# Altium footprint library PcbLib1.PcbLib: 12 footprints
Each footprint in its own frame and in the unit in brackets; x right, y up, seen from the top. Pads: shape width x height; smd on the part's side, far side on the other; paste and mask are expansions set on the pad; w line width, h text height; cw(c..) or ccw(c..) is an arc to the next point about the centre after c.
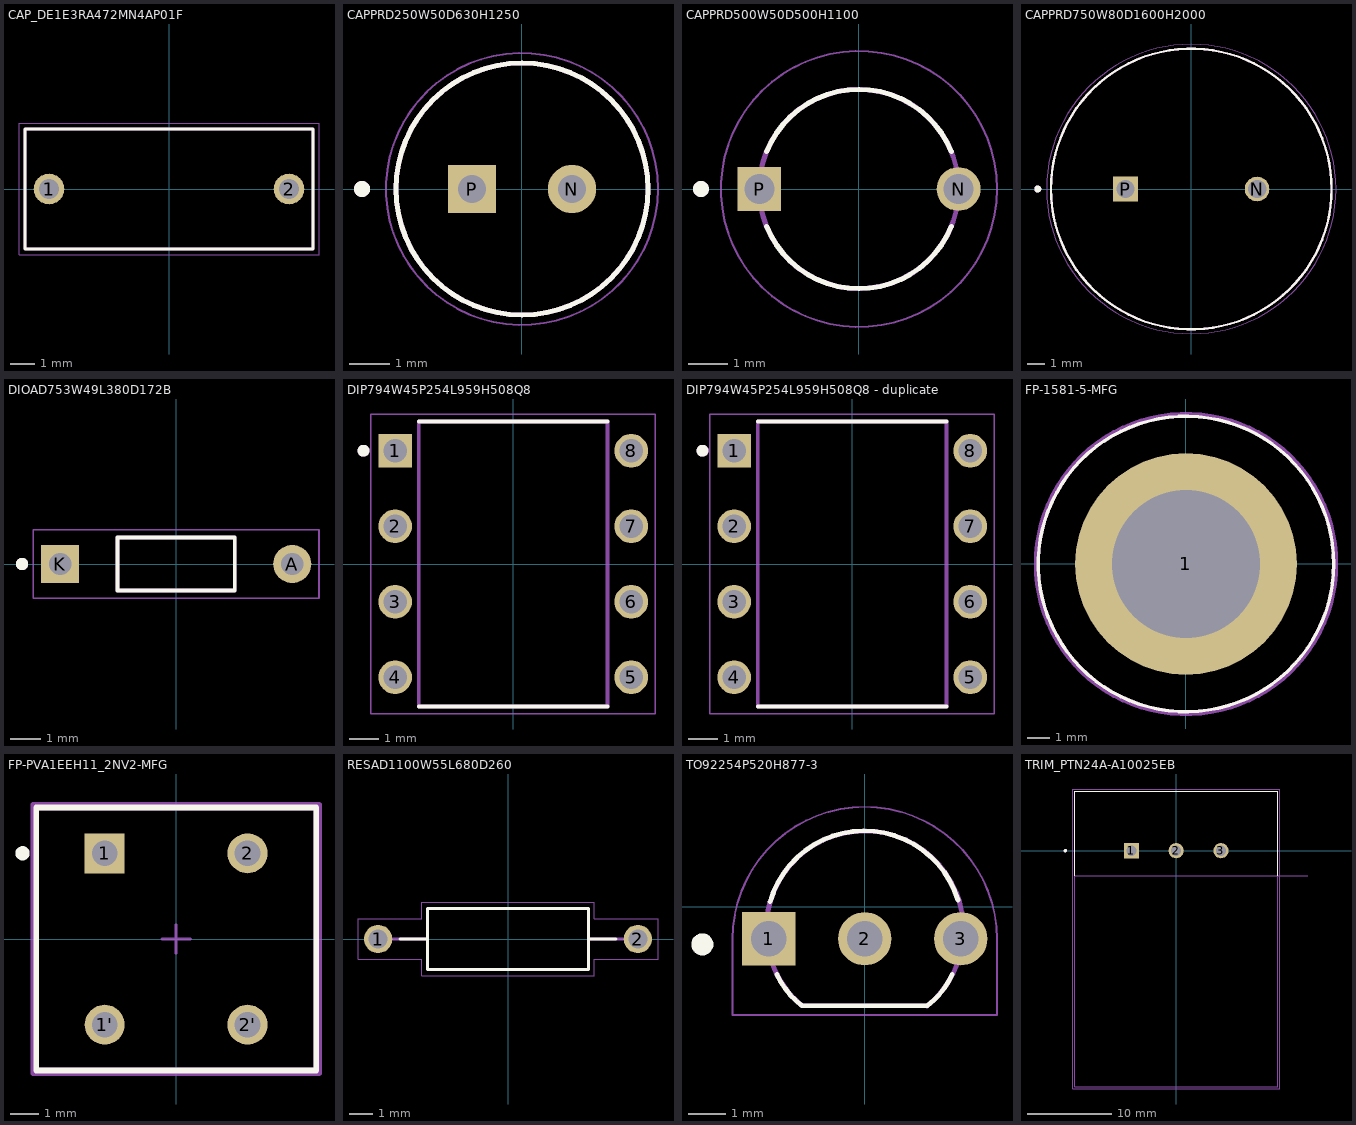
[diagram p0: the footprints below, top view; thin cyan lines are the x and y axes]

## CAP_DE1E3RA472MN4AP01F [mm]
pads (2):
  round 1.28 hole 0.85: 1(-5,0) 2(5,0)
Top Overlay:
  lines w0.127: -6,-2.5 6,-2.5 6,2.5 -6,2.5 -6,-2.5
Mechanical 13:
  lines w0.127: -6,-2.5 6,-2.5 6,2.5 -6,2.5 -6,-2.5
Mechanical 15:
  lines w0.05: -6.25,-2.75 6.25,-2.75 6.25,2.75 -6.25,2.75 -6.25,-2.75

## CAPPRD250W50D630H1250 [mm]
pads (2):
  round 1.208 hole 0.7: N(1.25,0)
  rect 1.208x1.208 / inner round 1.208 / far side rect 1.208x1.208 hole 0.7: P(-1.25,0)
Top Overlay:
  circle w0.2: c-4,0 r0.1
  circle w0.127: c0,0 r3.15
Mechanical 13:
  circle w0.2: c-4,0 r0.1
  circle w0.127: c0,0 r3.15
Mechanical 15:
  circle w0.05: c0,0 r3.4
3D body "step_temp.STEP": height 12.5, standoff -19, extent -3.15,-3.148 3.15,3.148

## CAPPRD500W50D500H1100 [mm]
pads (2):
  round 1.1 hole 0.75: N(2.5,0)
  rect 1.1x1.1 / inner round 1.1 / far side rect 1.1x1.1 hole 0.75: P(-2.5,0)
Top Overlay:
  circle w0.2: c-3.963,0 r0.1
  lines w0.127: -2.318,-0.937 ccw(c0,0) 2.318,-0.937 ; -2.318,0.937 cw(c0,0) 2.318,0.937
Mechanical 13:
  circle w0.127: c0,0 r2.5
  circle w0.2: c-3.963,0 r0.1
Mechanical 15:
  circle w0.05: c0,0 r3.463
3D body "step_temp.STEP": height 12.5, standoff -15.5, extent -2.75,-2.498 2.75,2.498

## CAPPRD750W80D1600H2000 [mm]
pads (2):
  round 1.4 hole 1.05: N(3.75,0)
  rect 1.4x1.4 hole 1.05: P(-3.75,0)
Top Overlay:
  circle w0.127: c0,0 r8
  circle w0.2: c-8.75,0 r0.1
Mechanical 13:
  circle w0.127: c0,0 r8
  circle w0.2: c-8.75,0 r0.1
Mechanical 15:
  circle w0.05: c0,0 r8.25
3D body "step_temp.STEP": height 20, standoff -17, extent -8,-7.999 8,7.999

## DIOAD753W49L380D172B [mm]
height 1.91
pads (2):
  round 1.238 hole 0.73: A(3.768,0)
  rect 1.238x1.238 / inner round 1.238 / far side rect 1.238x1.238 hole 0.73: K(-3.768,0)
Top Overlay:
  circle w0.2: c-5,0 r0.1
  lines w0.127: -1.903,-0.86 -1.903,0.86 1.903,0.86 1.903,-0.86 -1.903,-0.86
Mechanical 13:
  circle w0.2: c-5,0 r0.1
  lines w0.127: -1.903,-0.86 -1.903,0.86 1.903,0.86 1.903,-0.86 -1.903,-0.86
Mechanical 15:
  lines w0.05: -4.637,-1.11 -4.637,1.11 4.637,1.11 4.637,-1.11 -4.637,-1.11
3D body "step_temp.STEP": height 1.91, standoff -22.92, extent -4.003,-0.955 4.003,0.955

## DIP794W45P254L959H508Q8 [mm]
pads (8):
  rect 1.13x1.13 / inner round 1.13 / far side rect 1.13x1.13 hole 0.78: 1(-3.97,3.81)
  round 1.13 hole 0.78: 2(-3.97,1.27) 3(-3.97,-1.27) 4(-3.97,-3.81) 5(3.97,-3.81) 6(3.97,-1.27) 7(3.97,1.27) 8(3.97,3.81)
Top Overlay:
  circle w0.2: c-5.035,3.81 r0.1
  lines w0.127: -3.175,-4.795 3.175,-4.795 ; -3.175,4.795 3.175,4.795
Mechanical 13:
  circle w0.2: c-5.035,3.81 r0.1
  lines w0.127: -3.175,-4.795 3.175,-4.795 3.175,4.795 -3.175,4.795 -3.175,-4.795
Mechanical 15:
  lines w0.05: -4.785,-5.045 4.785,-5.045 4.785,5.045 -4.785,5.045 -4.785,-5.045
3D body "step_temp.STEP": height 5.08, standoff -3, extent -4.153,-4.795 4.153,4.795

## DIP794W45P254L959H508Q8 - duplicate [mm]
height 5.08
pads (8):
  rect 1.13x1.13 / inner round 1.13 / far side rect 1.13x1.13 hole 0.78: 1(-3.97,3.81)
  round 1.13 hole 0.78: 2(-3.97,1.27) 3(-3.97,-1.27) 4(-3.97,-3.81) 5(3.97,-3.81) 6(3.97,-1.27) 7(3.97,1.27) 8(3.97,3.81)
Top Overlay:
  circle w0.2: c-5.035,3.81 r0.1
  lines w0.127: -3.175,-4.795 3.175,-4.795 ; -3.175,4.795 3.175,4.795
Mechanical 13:
  circle w0.2: c-5.035,3.81 r0.1
  lines w0.127: -3.175,-4.795 -3.175,4.795 3.175,4.795 3.175,-4.795 -3.175,-4.795
Mechanical 15:
  lines w0.05: -4.785,-5.045 -4.785,5.045 4.785,5.045 4.785,-5.045 -4.785,-5.045
3D body "step_temp.STEP": height 5.08, standoff -3, extent -4.153,-4.795 4.153,4.795

## FP-1581-5-MFG [mm]
pads (1):
  round 9.9 hole 6.6 paste-2539.97 mask+0: 1(0,0)
Top Overlay:
  circle w0.15: c0,0 r6.604
Top 3D Body:
  circle w0.15: c0,0 r6.604
Top Courtyard:
  lines w0.2: -6.704,0 ccw(c0,0) 6.704,0 ccw(c0,0) -6.704,0
Top Assembly:
  text ".Designator" at 0,0.188 h1
Top Component Center:
  lines w0.1: -0.5,0 0.5,0 ; 0,-0.5 0,0.5
3D body "Conn_Pomona_Electronics_1581-5_eec.STEP": height 0.25, standoff 0, extent -6.704,-6.704 6.704,6.704

## FP-PVA1EEH11_2NV2-MFG [mm]
pads (4):
  rect 1.4x1.4 hole 0.9 paste-2539.97 mask+0: 1(-2.5,3)
  round 1.4 hole 0.9 paste-2539.97 mask+0: 1'(-2.5,-3) 2(2.5,3) 2'(2.5,-3)
Top Overlay:
  circle w0.25: c-5.375,3 r0.125
  lines w0.2: -4.9,-4.6 -4.9,4.6 4.9,4.6 4.9,-4.6 -4.9,-4.6
Top 3D Body:
  lines w0.2: -4.9,-4.6 -4.9,4.6 4.9,4.6 4.9,-4.6 -4.9,-4.6
Top Courtyard:
  lines w0.2: -5,-4.7 -5,4.7 5,4.7 5,-4.7 -5,-4.7
Top Assembly:
  lines w0.2: -5,-4.7 -5,4.7 5,4.7 5,-4.7 -5,-4.7
  text ".Designator" at 0,0.188 h1
Top Component Center:
  lines w0.1: -0.5,0 0.5,0 ; 0,-0.5 0,0.5
3D body "Switch_C&K_Components_PVA1EEH11_2NV2_eec.STEP": height 0.25, standoff 0, extent -5,-4.7 5,4.7

## RESAD1100W55L680D260 [mm]
height 2.6
pads (2):
  round 1.2 hole 0.8: 1(-5.5,0) 2(5.5,0)
Top Overlay:
  lines w0.127: -4.58,0 -3.4,0 ; 4.58,0 3.4,0 ; -3.4,0 -3.4,1.3 3.4,1.3 3.4,0 ; -3.4,0 -3.4,-1.3 3.4,-1.3 3.4,0
Mechanical 13:
  lines w0.127: -4.9,0 -3.4,0 ; 4.9,0 3.4,0 ; -3.4,0 -3.4,1.3 3.4,1.3 3.4,0 ; -3.4,0 -3.4,-1.3 3.4,-1.3 3.4,0
Mechanical 15:
  lines w0.05: -6.35,-0.85 -3.65,-0.85 -3.65,-1.55 3.65,-1.55 3.65,-0.85 6.35,-0.85 6.35,0.85 3.65,0.85 3.65,1.55 -3.65,1.55 -3.65,0.85 -6.35,0.85 -6.35,-0.85
3D body "step_temp.STEP": height 2.4, standoff -26.95, extent -5.775,-1.2 5.775,1.2

## TO92254P520H877-3 [mm]
pads (3):
  rect 1.41x1.41 / inner round 1.41 / far side rect 1.41x1.41 hole 0.94: 1(-2.54,-0.853)
  round 1.41 hole 0.94: 2(0,-0.853) 3(2.54,-0.853)
Top Overlay:
  circle w0.3: c-4.3,-1 r0.141
  lines w0.127: -2.506,0.128 cw(c-0.013,-0.587) 2.468,0.172 ; -2.326,-1.791 ccw(c-0.4,-0.934) -1.669,-2.617 ; -1.661,-2.623 1.661,-2.623 ; 1.659,-2.618 ccw(c0.39,-0.935) 2.316,-1.792
Mechanical 13:
  lines w0.127: -1.679,-2.608 cw(c0,-0.608) 1.643,-2.637 ; -1.661,-2.623 1.661,-2.623
Mechanical 15:
  lines w0.05: -3.5,-2.873 3.5,-2.873 3.5,-0.857 ccw(c0,-0.857) -3.5,-0.857 -3.5,-2.873
3D body "step_temp.STEP": height 8.77, standoff -13, extent -2.83,-1.43 2.83,2.19

## TRIM_PTN24A-A10025EB [mm]
height 30
pads (3):
  rect 1.8x1.8 / inner round 1.8 / far side rect 1.8x1.8 hole 1.2: 1(-5.3,0)
  round 1.8 hole 1.2: 2(0,0) 3(5.3,0)
Top Overlay:
  circle w0.2: c-13.12,0 r0.1
  lines w0.127: -12,-2.95 -12,7.05 12,7.05 12,-2.95
Mechanical 13:
  circle w0.2: c-13.12,0 r0.1
  lines w0.127: 15.55,-2.95 12,-2.95 ; -12,-2.95 -12,7.05 12,7.05 12,-2.95 ; -12,-2.95 -12,-27.95 12,-27.95 12,-2.95 ; -12,-2.95 12,-2.95
  text "PCB EDGE" at 12.4,-2.7 h1.02
Mechanical 15:
  lines w0.05: -12.25,-28.2 12.25,-28.2 12.25,7.3 -12.25,7.3 -12.25,-28.2
3D body "step_temp.STEP": height 12.2, standoff -22, extent -12.192,-27.66 12.162,7.34